# Altium footprint library TL3300DF160Q.PcbLib: 1 footprints
Each footprint in its own frame and in the unit in brackets; x right, y up, seen from the top. Pads: shape width x height; smd on the part's side, far side on the other; paste and mask are expansions set on the pad; w line width, h text height; cw(c..) or ccw(c..) is an arc to the next point about the centre after c.
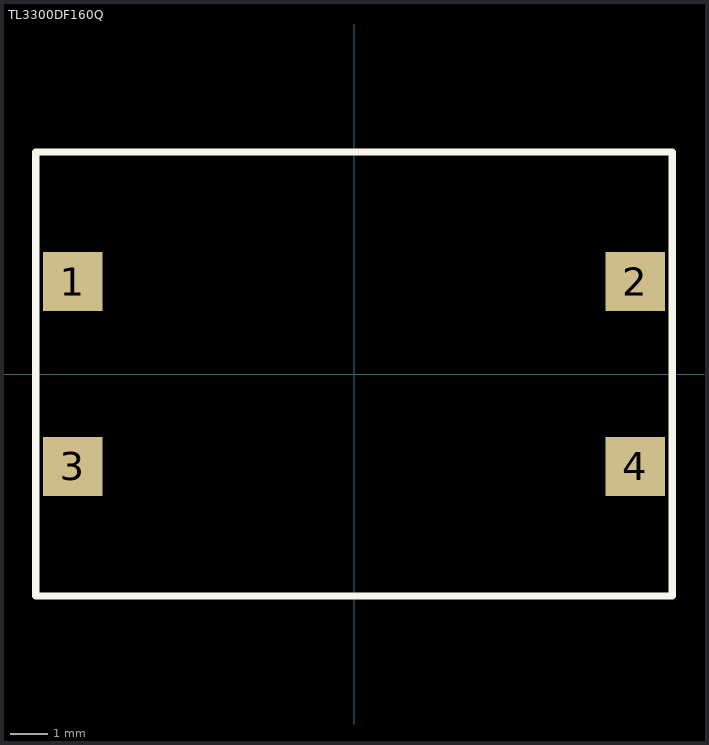
[diagram p0: the footprint, top view; thin cyan lines are the x and y axes]

## TL3300DF160Q [mm]
height 0.9
pads (4):
  rect 1.6x1.6 smd: 1(-7.6,2.5) 2(7.6,2.5) 3(-7.6,-2.5) 4(7.6,-2.5)
Top Overlay:
  lines w0.2: -8.6,-6 -8.6,6 8.6,6 8.6,-6 -8.6,-6
Top Assembly:
  lines w0.1: -8.6,-6 -8.6,6 8.6,6 8.6,-6 -8.6,-6
  text "'.Designator'" at 0,0 h0.7
3D body "TL3300DFxxxQ.stp": height 4.6, standoff 0, extent -7.5,-6 7.5,6